# Altium footprint library MagI3C-FISM_SMT-8.PcbLib: 1 footprints
Each footprint in its own frame and in the unit in brackets; x right, y up, seen from the top. Pads: shape width x height; smd on the part's side, far side on the other; paste and mask are expansions set on the pad; w line width, h text height; cw(c..) or ccw(c..) is an arc to the next point about the centre after c.
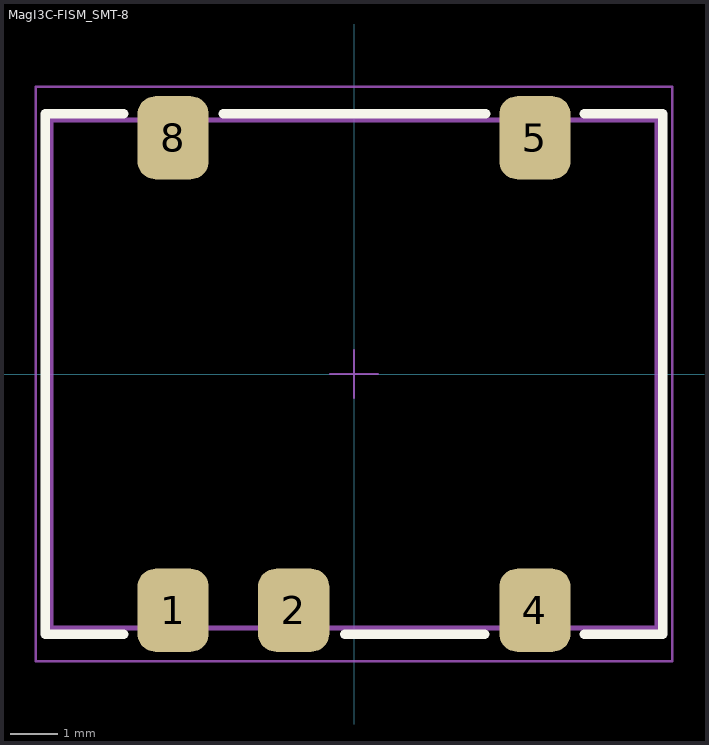
[diagram p0: the footprint, top view; thin cyan lines are the x and y axes]

## MagI3C-FISM_SMT-8 [mm] "Fixed Isolated Module, SMT-8, body 12.75x10.7mm"
height 6.95
pads (5):
  rrect50% 1.5x1.75 smd paste-0.01: 1(-3.81,-4.975) 2(-1.27,-4.975) 4(3.81,-4.975) 5(3.81,4.975) 8(-3.81,4.975)
Top Overlay:
  lines w0.2: -4.85,-5.475 -6.5,-5.475 -6.5,5.475 -4.85,5.475 ; -2.75,5.475 2.77,5.475 ; -0.2,-5.475 2.75,-5.475 ; 4.85,-5.475 6.5,-5.475 6.5,5.475 4.85,5.475
Top Assembly:
  lines w0.05: -0.5,0 0.5,0 ; 0,-0.5 0,0.5
  lines w0.1: -6.375,-5.35 -6.375,5.35 6.375,5.35 6.375,-5.35 -6.375,-5.35
Top Courtyard:
  lines w0.05: -6.7,-6.05 -6.7,6.05 6.7,6.05 6.7,-6.05 -6.7,-6.05
3D body "FISM_SMT-8.stp": height 6.95, standoff 0, extent -6.336,-5.575 6.414,5.525